# Altium integrated library pedals-integrated circuits.IntLib: 56 symbols
Pins are listed as number, name and electrical type; pins without a type are passive.

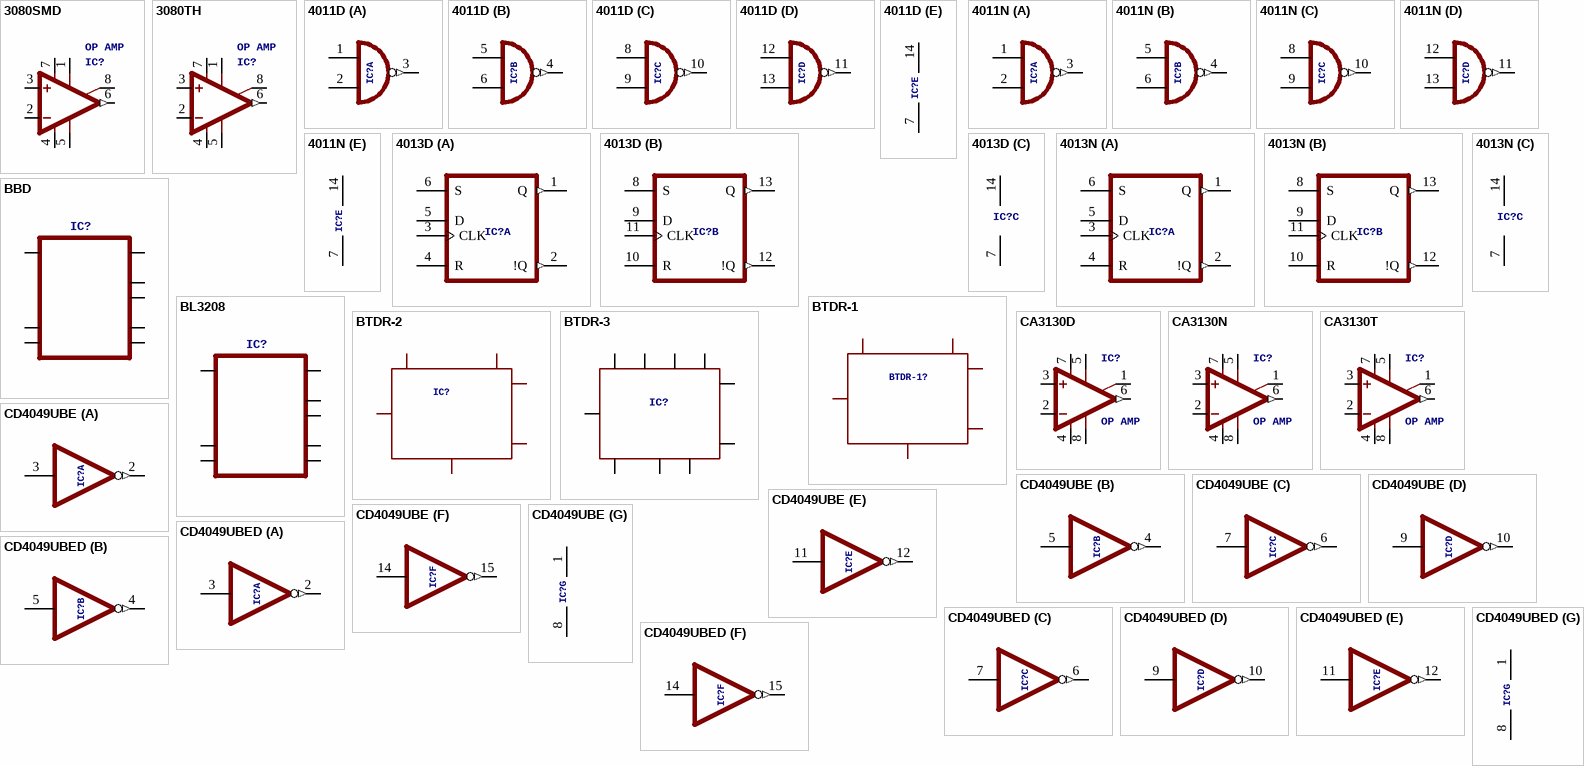
[diagram p0: symbols 3080SMD to CD4049UBED]

## 3080SMD
designator IC?, comment OP AMP
footprint SO08
pins: 1 ON1, 2 -IN, 3 +IN, 4 V- (power), 5 OPT, 6 OUT (out), 7 V+ (power), 8 ON2

## 3080TH
designator IC?, comment OP AMP
footprint DIL0
pins: 1 ON1, 2 -IN, 3 +IN, 4 V- (power), 5 OPT, 6 OUT (out), 7 V+ (power), 8 ON2

## 4011D
designator IC?, comment Quad 2-input NAND  (value not drawn)
footprint SO14
part A pins: 1 I0, 2 I1, 3 O (out)
part B pins: 4 O (out), 5 I0, 6 I1
part C pins: 8 I0, 9 I1, 10 O (out)
part D pins: 11 O (out), 12 I0, 13 I1
part E pins: 7 VSS (power), 14 VDD (power)

## 4011N
designator IC?, comment Quad 2-input NAND  (value not drawn)
footprint DIL14
part A pins: 1 I0, 2 I1, 3 O (out)
part B pins: 4 O (out), 5 I0, 6 I1
part C pins: 8 I0, 9 I1, 10 O (out)
part D pins: 11 O (out), 12 I0, 13 I1
part E pins: 7 VSS (power), 14 VDD (power)

## 4013D
designator IC?, comment Dual D FLIP FLOP, set/reset  (value not drawn)
footprint SO14
part A pins: 1 Q (out), 2 !Q (out), 3 CLK, 4 R, 5 D, 6 S
part B pins: 8 S, 9 D, 10 R, 11 CLK, 12 !Q (out), 13 Q (out)
part C pins: 7 VSS (power), 14 VDD (power)

## 4013N
designator IC?, comment Dual D FLIP FLOP, set/reset  (value not drawn)
footprint DIL14
part A pins: 1 Q (out), 2 !Q (out), 3 CLK, 4 R, 5 D, 6 S
part B pins: 8 S, 9 D, 10 R, 11 CLK, 12 !Q (out), 13 Q (out)
part C pins: 7 VSS (power), 14 VDD (power)

## BBD
designator IC?
footprint BBD
pins: 1 P$1, 2 P$2, 3 P$3, 4 P$4, 5 P$5, 6 P$6, 7 P$7, 8 P$8

## BL3208
designator IC?
footprint DIL0
pins: 1, 2, 3, 4, 5, 6, 7, 8

## BTDR-1
designator BTDR-1?
footprint BTDR-1
pins: 1, 2, 3, 4, 5, 7

## BTDR-2
designator IC?
footprint BTDR-2
pins: 1, 2, 3, 4, 5, 6

## BTDR-3
designator IC?
footprint BTDR-3
pins: 1, 2, 3, 4, 5, 6, 7, 8, 9, 10

## CA3130D
designator IC?, comment OP AMP
footprint SO08
pins: 1 ON/CMP, 2 -IN, 3 +IN, 4 V- (power), 5 ON, 6 OUT (out), 7 V+ (power), 8 CMP

## CA3130N
designator IC?, comment OP AMP
footprint DIL0
pins: 1 ON/CMP, 2 -IN, 3 +IN, 4 V- (power), 5 ON, 6 OUT (out), 7 V+ (power), 8 CMP

## CA3130T
designator IC?, comment OP AMP
footprint TO99
pins: 1 ON/CMP, 2 -IN, 3 +IN, 4 V- (power), 5 ON, 6 OUT (out), 7 V+ (power), 8 CMP

## CD4049UBE
designator IC?, comment Hex Inverting Buffer   Used, for example, in the Red Llama, Three Legged Dog, and Hot Harmonics.  (value not drawn)
footprint DIL16
part A pins: 2 O (out), 3 I
part B pins: 4 O (out), 5 I
part C pins: 6 O (out), 7 I
part D pins: 9 I, 10 O (out)
part E pins: 11 I, 12 O (out)
part F pins: 14 I, 15 O (out)
part G pins: 1 VDD (power), 8 VSS (power)

## CD4049UBED
designator IC?, comment Hex Inverting Buffer   Used, for example, in the Red Llama, Three Legged Dog, and Hot Harmonics.  (value not drawn)
footprint SO16
part A pins: 2 O (out), 3 I
part B pins: 4 O (out), 5 I
part C pins: 6 O (out), 7 I
part D pins: 9 I, 10 O (out)
part E pins: 11 I, 12 O (out)
part F pins: 14 I, 15 O (out)
part G pins: 1 VDD (power), 8 VSS (power)

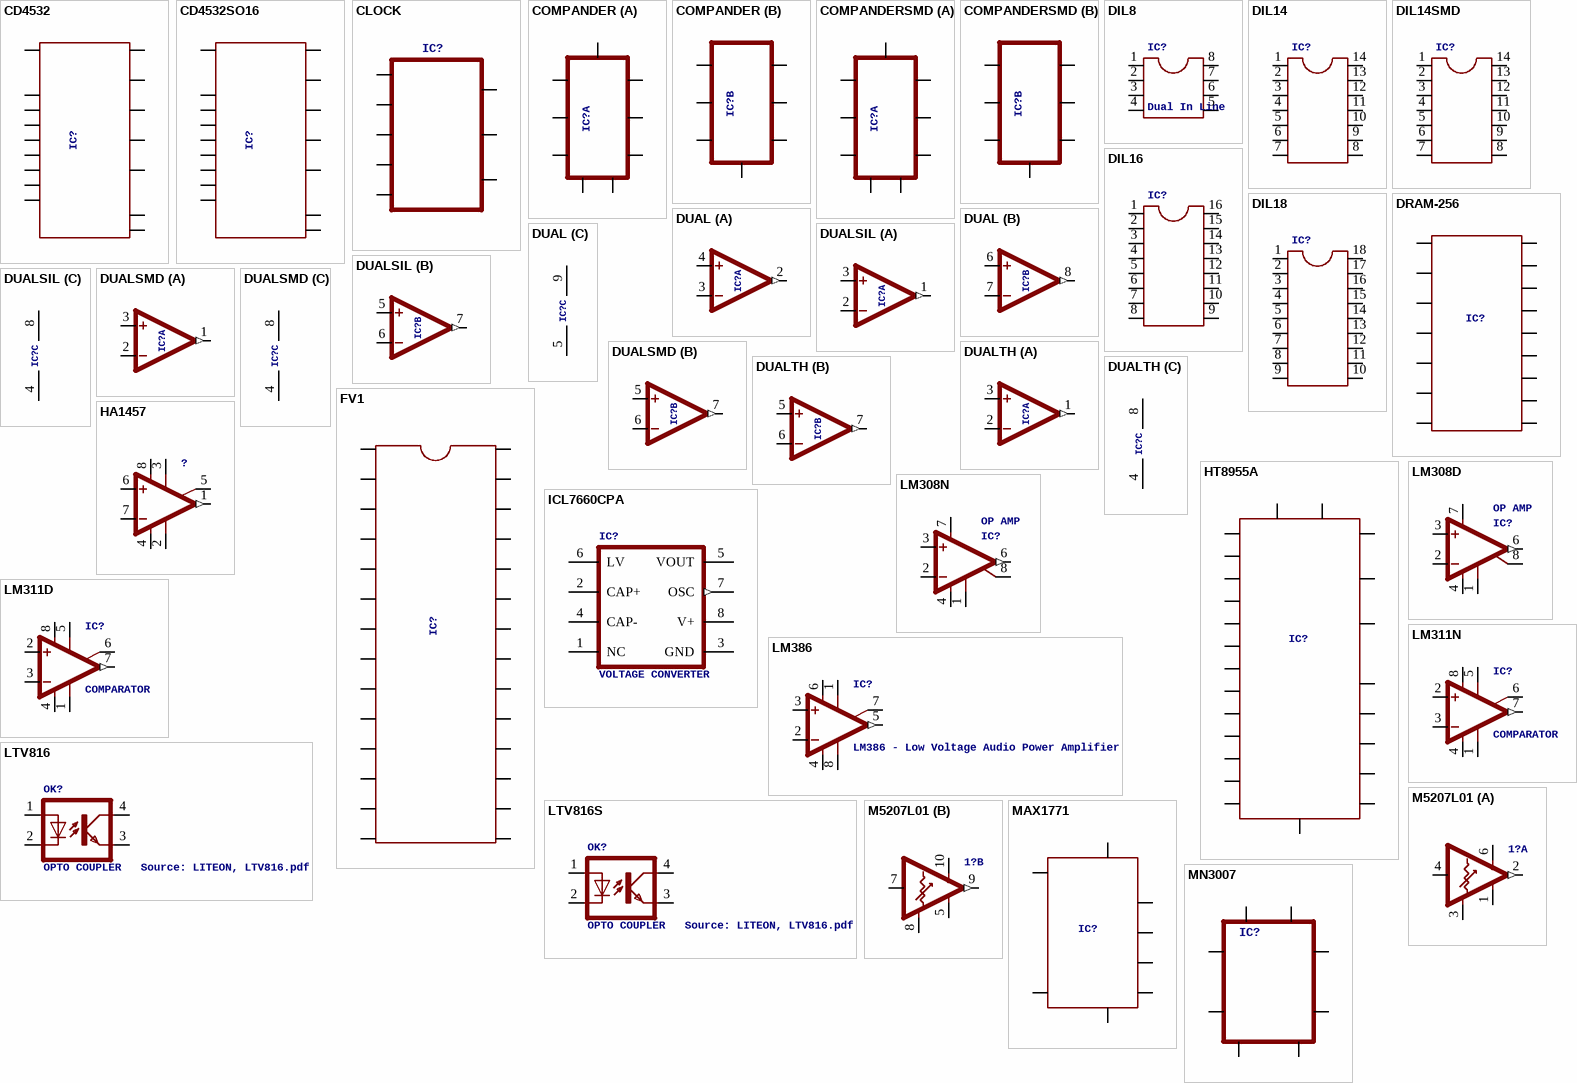
[diagram p1: symbols CD4532 to MN3007]

## CD4532
designator IC?
footprint DIL16
pins: 1, 2, 3, 4, 5, 6, 7, 8, 9, 10, 11, 12, 13, 14, 15, 16

## CD4532SO16
designator IC?
footprint SO16
pins: 1, 2, 3, 4, 5, 6, 7, 8, 9, 10, 11, 12, 13, 14, 15, 16

## CLOCK
designator IC?
footprint DIL8
pins: 1 P$1, 2 P$2, 3 P$3, 4 P$4, 5 P$5, 6 P$6, 7 P$7, 8 P$8

## COMPANDER
designator IC?
footprint DIL16
part A pins: 1, 2, 3, 4, 5, 6, 7, 8, 13
part B pins: 9, 10, 11, 12, 14, 15, 16

## COMPANDERSMD
designator IC?
footprint SO16
part A pins: 1, 2, 3, 4, 5, 6, 7, 8, 13
part B pins: 9, 10, 11, 12, 14, 15, 16

## DIL8
designator IC?, comment Dual In Line
footprint DIL0
pins: 1, 2, 3, 4, 5, 6, 7, 8

## DIL14
designator IC?
footprint DIL14
pins: 1, 2, 3, 4, 5, 6, 7, 8, 9, 10, 11, 12, 13, 14

## DIL14SMD
designator IC?
footprint SO14
pins: 1, 2, 3, 4, 5, 6, 7, 8, 9, 10, 11, 12, 13, 14

## DIL16
designator IC?
footprint DIL16
pins: 1, 2, 3, 4, 5, 6, 7, 8, 9, 10, 11, 12, 13, 14, 15, 16

## DIL18
designator IC?
footprint DIL18
pins: 1, 2, 3, 4, 5, 6, 7, 8, 9, 10, 11, 12, 13, 14, 15, 16, 17, 18

## DRAM-256
designator IC?
footprint DIL16
pins: 1 P$1, 2 P$2, 3 P$3, 4 P$4, 5 P$5, 6 P$6, 7 P$7, 8 P$8, 9 P$9, 10 P$10, 11 P$11, 12 P$12, 13 P$13, 14 P$14, 15 P$15, 16 P$16

## DUAL
designator IC?, comment OP AMP  (value not drawn)
footprint SIL09
part A pins: 2 OUT (out), 3 -IN, 4 +IN
part B pins: 6 +IN, 7 -IN, 8 OUT (out)
part C pins: 5 V- (power), 9 V+ (power)

## DUALSIL
designator IC?, comment OP AMP  (value not drawn)
footprint SIL08
part A pins: 1 OUT (out), 2 -IN, 3 +IN
part B pins: 5 +IN, 6 -IN, 7 OUT (out)
part C pins: 4 V- (power), 8 V+ (power)

## DUALSMD
designator IC?, comment OP AMP  (value not drawn)
footprint SO08
part A pins: 1 OUT (out), 2 -IN, 3 +IN
part B pins: 5 +IN, 6 -IN, 7 OUT (out)
part C pins: 4 V- (power), 8 V+ (power)

## DUALTH
designator IC?, comment OP AMP  (value not drawn)
footprint DIL0
part A pins: 1 OUT (out), 2 -IN, 3 +IN
part B pins: 5 +IN, 6 -IN, 7 OUT (out)
part C pins: 4 V- (power), 8 V+ (power)

## FV1
designator IC?
footprint SO1C28
pins: 1 P$1, 2 P$2, 3 P$3, 4 P$4, 5 P$5, 6 P$6, 7 P$7, 8 P$8, 9 P$9, 10 P$10, 11 P$11, 12 P$12, 13 P$13, 14 P$14, 15 P$15, 16 P$16, 17 P$17, 18 P$18, 19 P$19, 20 P$20, 21 P$21, 22 P$22, 23 P$23, 24 P$24, 25 P$25, 26 P$26, 27 P$27, 28 P$28

## HA1457
designator ?
footprint SIL8
pins: 1 OUT (out), 2 OPT, 3 ON1, 4 V- (power), 5 ON2, 6 +IN, 7 -IN, 8 V+ (power)

## HT8955A
designator IC?
footprint DIL24
pins: 1, 2, 3, 4, 5, 6, 7, 8, 9, 10, 11, 12, 13, 14, 15, 16, 17, 18, 19, 20, 21, 22, 23, 24

## ICL7660CPA
designator IC?, comment VOLTAGE CONVERTER
MPN: ICL7660CPA; MF: INTERSIL; OC_FARNELL: 1018170; OC_NEWARK: 06F7441
footprint DIL08
pins: 1 NC (power), 2 CAP+, 3 GND (power), 4 CAP-, 5 VOUT (power), 6 LV, 7 OSC (out), 8 V+ (power)

## LM308D
designator IC?, comment OP AMP
footprint SO08
pins: 1 CMP1, 2 -IN, 3 +IN, 4 V- (power), 6 OUT (out), 7 V+ (power), 8 CMP2

## LM308N
designator IC?, comment OP AMP
footprint DIL0
pins: 1 CMP1, 2 -IN, 3 +IN, 4 V- (power), 6 OUT (out), 7 V+ (power), 8 CMP2

## LM311D
designator IC?, comment COMPARATOR
footprint SO08
pins: 1 GND, 2 +IN, 3 -IN, 4 V- (power), 5 ON, 6 ON/STR, 7 OUT (out), 8 V+ (power)

## LM311N
designator IC?, comment COMPARATOR
footprint DIL0
pins: 1 GND, 2 +IN, 3 -IN, 4 V- (power), 5 ON, 6 ON/STR, 7 OUT (out), 8 V+ (power)

## LM386
designator IC?, comment LM386 - Low Voltage Audio Power Amplifier
footprint DIL0
pins: 1 GAIN1, 2 -IN, 3 +IN, 4 V- (power), 5 OUT (out), 6 V+ (power), 7 BYPASS, 8 GAIN2

## LTV816
designator OK?, comment OPTO COUPLER   Source: LITEON, LTV816.pdf
OC_FARNELL: unknown; OC_NEWARK: unknown
footprint DIL04
pins: 1 A, 2 C, 3 EMIT, 4 COL

## LTV816S
designator OK?, comment OPTO COUPLER   Source: LITEON, LTV816.pdf
footprint DIL4-SMD
pins: 1 A, 2 C, 3 EMIT, 4 COL

## M5207L01
designator 1?
footprint SIL10
part A pins: 1 -PWR (power), 2 OUT (out), 3 VC, 4 IN, 6 +PWR (power)
part B pins: 5 -PWR (power), 7 IN, 8 VC, 9 OUT (out), 10 +PWR (power)

## MAX1771
designator IC?
footprint DIL0
pins: 1, 2, 3, 4, 5, 6, 7, 8

## MN3007
designator IC?
footprint DIL8
pins: 1 P$1, 2 P$2, 3 P$3, 4 P$4, 5 P$5, 6 P$6, 7 P$7, 8 P$8

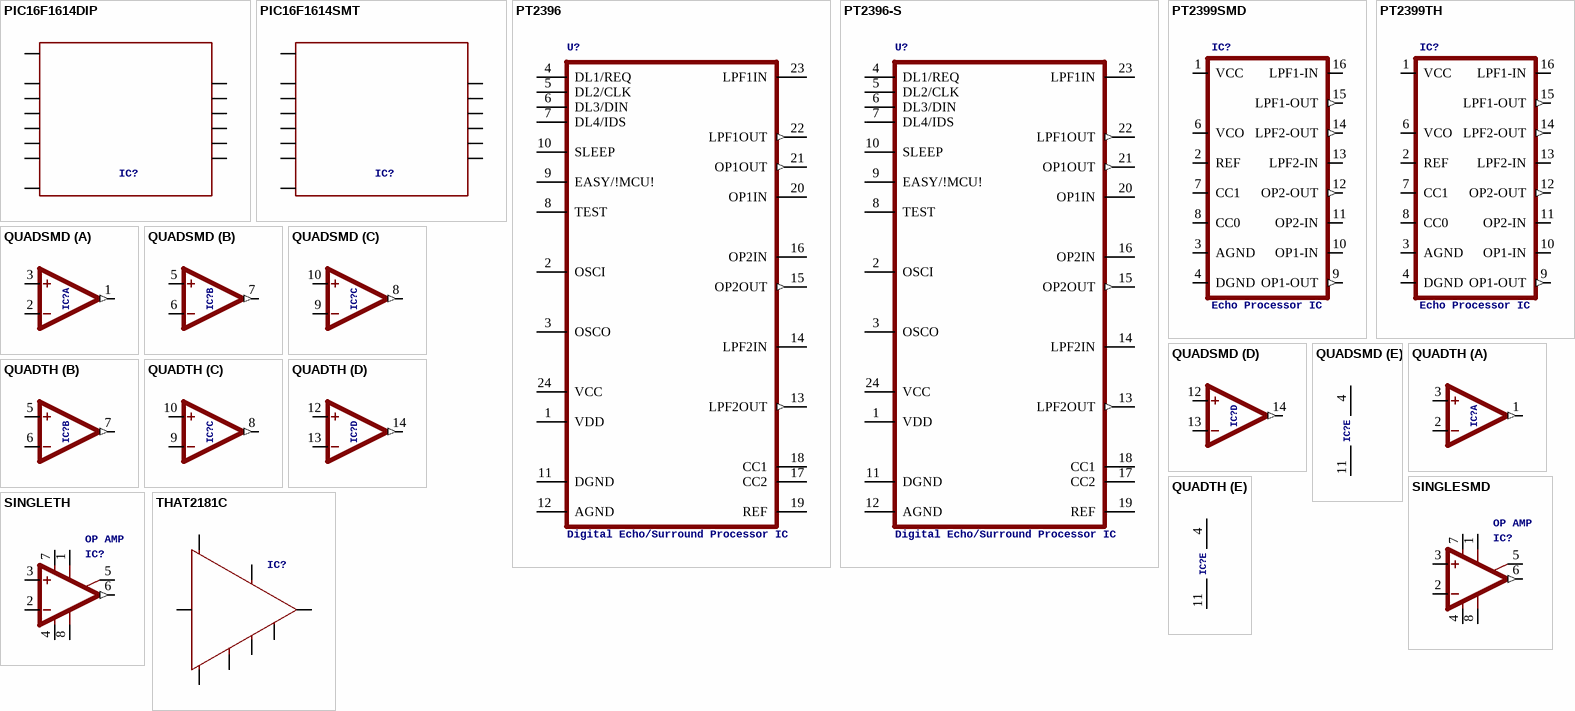
[diagram p2: symbols PIC16F1614DIP to THAT2181C]

## PIC16F1614DIP
designator IC?
footprint DIL14
pins: 1, 2, 3, 4, 5, 6, 7, 8, 9, 10, 11, 12, 13, 14

## PIC16F1614SMT
designator IC?
footprint SO14
pins: 1, 2, 3, 4, 5, 6, 7, 8, 9, 10, 11, 12, 13, 14

## PT2396
designator U?, comment Digital Echo/Surround Processor IC
footprint DIL24
pins: 1 VDD (power), 2 OSCI, 3 OSCO, 4 DL1/REQ, 5 DL2/CLK, 6 DL3/DIN, 7 DL4/IDS, 8 TEST, 9 EASY/!MCU!, 10 SLEEP, 11 DGND (power), 12 AGND (power), 13 LPF2OUT (out), 14 LPF2IN, 15 OP2OUT (out), 16 OP2IN, 17 CC2, 18 CC1, 19 REF, 20 OP1IN, 21 OP1OUT (out), 22 LPF1OUT (out), 23 LPF1IN, 24 VCC (power)

## PT2396-S
designator U?, comment Digital Echo/Surround Processor IC
footprint SOP24
pins: 1 VDD (power), 2 OSCI, 3 OSCO, 4 DL1/REQ, 5 DL2/CLK, 6 DL3/DIN, 7 DL4/IDS, 8 TEST, 9 EASY/!MCU!, 10 SLEEP, 11 DGND (power), 12 AGND (power), 13 LPF2OUT (out), 14 LPF2IN, 15 OP2OUT (out), 16 OP2IN, 17 CC2, 18 CC1, 19 REF, 20 OP1IN, 21 OP1OUT (out), 22 LPF1OUT (out), 23 LPF1IN, 24 VCC (power)

## PT2399SMD
designator IC?, comment Echo Processor IC
footprint SO16W
pins: 1 VCC (power), 2 REF, 3 AGND (power), 4 DGND (power), 6 VCO, 7 CC1, 8 CC0, 9 OP1-OUT (out), 10 OP1-IN, 11 OP2-IN, 12 OP2-OUT (out), 13 LPF2-IN, 14 LPF2-OUT (out), 15 LPF1-OUT (out), 16 LPF1-IN

## PT2399TH
designator IC?, comment Echo Processor IC
footprint DIL16
pins: 1 VCC (power), 2 REF, 3 AGND (power), 4 DGND (power), 6 VCO, 7 CC1, 8 CC0, 9 OP1-OUT (out), 10 OP1-IN, 11 OP2-IN, 12 OP2-OUT (out), 13 LPF2-IN, 14 LPF2-OUT (out), 15 LPF1-OUT (out), 16 LPF1-IN

## QUADSMD
designator IC?, comment OP AMP  (value not drawn)
footprint SO14
part A pins: 1 OUT (out), 2 -IN, 3 +IN
part B pins: 5 +IN, 6 -IN, 7 OUT (out)
part C pins: 8 OUT (out), 9 -IN, 10 +IN
part D pins: 12 +IN, 13 -IN, 14 OUT (out)
part E pins: 4 V+ (power), 11 V- (power)

## QUADTH
designator IC?, comment OP AMP  (value not drawn)
footprint DIL14
part A pins: 1 OUT (out), 2 -IN, 3 +IN
part B pins: 5 +IN, 6 -IN, 7 OUT (out)
part C pins: 8 OUT (out), 9 -IN, 10 +IN
part D pins: 12 +IN, 13 -IN, 14 OUT (out)
part E pins: 4 V+ (power), 11 V- (power)

## SINGLESMD
designator IC?, comment OP AMP
footprint SO08
pins: 1 ON1, 2 -IN, 3 +IN, 4 V- (power), 5 ON2, 6 OUT (out), 7 V+ (power), 8 OPT

## SINGLETH
designator IC?, comment OP AMP
footprint DIL0
pins: 1 ON1, 2 -IN, 3 +IN, 4 V- (power), 5 ON2, 6 OUT (out), 7 V+ (power), 8 OPT

## THAT2181C
designator IC?
footprint SIL8
pins: 1 P$1, 2 P$2, 3 P$3, 4 P$4, 5 P$5, 6 P$6, 7 P$7, 8 P$8